# EAGLE library part 74XX-EU_74*251 (library ネオぴゅう太_ReplaceLibParts)
1 of 8 data SELECTOR/MULTIPLEXER, 3-state
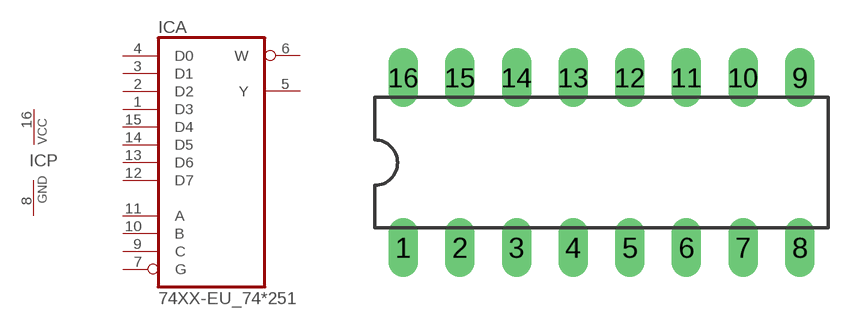
[diagram p7: symbol with the pads of 74XX-EU_DIL16; footprint 74XX-EU_DIL16]

Designator prefix IC; gates A=74XX-EU_74251 P=74XX-EU_PWRN

## 74XX-EU_74251N, 74XX-EU_74AC251N, 74XX-EU_74ACT251N, 74XX-EU_74HC251N, 74XX-EU_74HCT251N, 74XX-EU_74LS251N, 74XX-EU_74S251N  [74XX-EU_DIL16]
1  A:D3  in
2  A:D2  in
3  A:D1  in
4  A:D0  in
5  A:Y  hiz
6  A:W  hiz
7  A:G  in
8  P:GND  pwr
9  A:C  in
10  A:B  in
11  A:A  in
12  A:D7  in
13  A:D6  in
14  A:D5  in
15  A:D4  in
16  P:VCC  pwr

## Footprint 74XX-EU_DIL16 (pad centres in mm)
Dual In Line Package
drill 0.813 long: 1 -8.89,-3.81; 2 -6.35,-3.81; 3 -3.81,-3.81; 4 -1.27,-3.81; 5 1.27,-3.81; 6 3.81,-3.81; 7 6.35,-3.81; 8 8.89,-3.81; 9 8.89,3.81; 10 6.35,3.81; 11 3.81,3.81; 12 1.27,3.81; 13 -1.27,3.81; 14 -3.81,3.81; 15 -6.35,3.81; 16 -8.89,3.81